# EAGLE library part К155ИД1 (library Kunosheru)
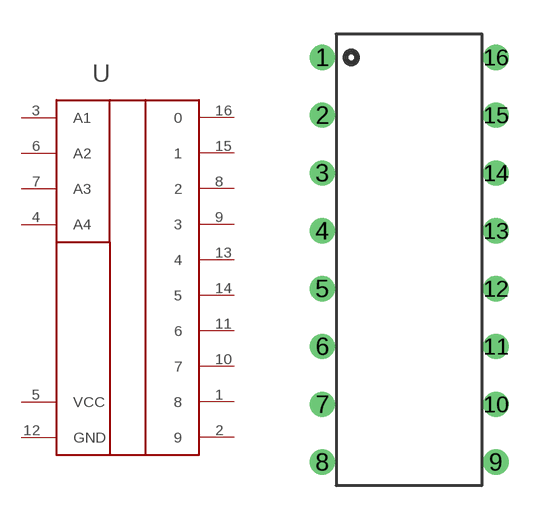
[diagram p15: symbol with the pads of DIP16; footprint DIP16]

Designator prefix -

## К155ИД1  [DIP16]
1  8
2  9
3  A1
4  A4
5  VCC
6  A2
7  A3
8  2
9  3
10  7
11  6
12  GND
13  4
14  5
15  1
16  0

## Footprint DIP16 (pad centres in mm)
drill 0.6: 1 -3.81,8.89; 2 -3.81,6.35; 3 -3.81,3.81; 4 -3.81,1.27; 5 -3.81,-1.27; 6 -3.81,-3.81; 7 -3.81,-6.35; 8 -3.81,-8.89; 9 3.81,-8.89; 10 3.81,-6.35; 11 3.81,-3.81; 12 3.81,-1.27; 13 3.81,1.27; 14 3.81,3.81; 15 3.81,6.35; 16 3.81,8.89